# EAGLE library part 609-3706-1-ND-* (library RoboJackets-Connectors)
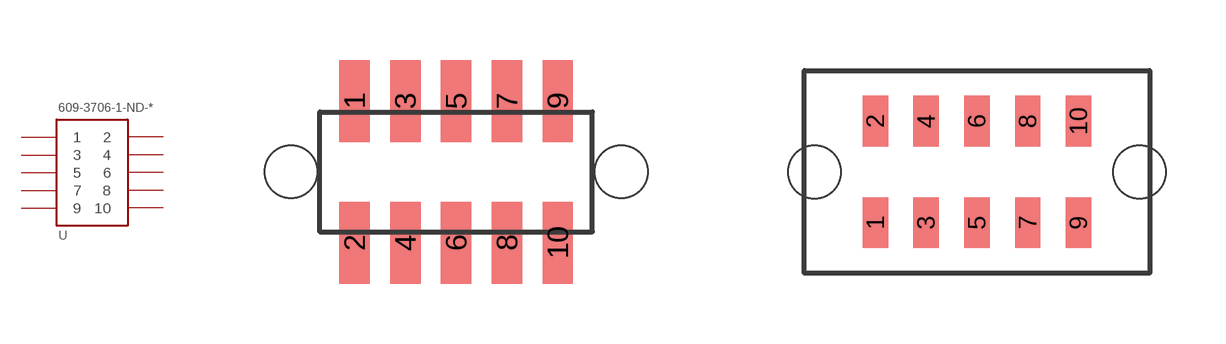
[diagram p10: symbol with the pads of 5X2_FEMALE; footprints 5X2_FEMALE, 5X2_MALE]

Designator prefix -

## 609-3706-1-ND-FEMALE  [5X2_FEMALE]
1  1
2  2
3  3
4  4
5  5
6  6
7  7
8  8
9  9
10  10

## 609-3706-1-ND-MALE  [5X2_MALE]
Pads as for 5X2_FEMALE

## Footprint 5X2_FEMALE (pad centres in mm)
smd 0.76 x 2.05: 1 -2.54,1.775; 2 -2.54,-1.775; 3 -1.27,1.775; 4 -1.27,-1.775; 5 0,1.775; 6 0,-1.775; 7 1.27,1.775; 8 1.27,-1.775; 9 2.54,1.775; 10 2.54,-1.775
hole 1.321 at -4.13,0
hole 1.321 at 4.13,0

## Footprint 5X2_MALE (pad centres in mm)
Amphenol FCI - SMD 10 pin connector
smd 0.635 x 1.27: 1 -2.54,-1.27; 2 -2.54,1.27; 3 -1.27,-1.27; 4 -1.27,1.27; 5 0,-1.27; 6 0,1.27; 7 1.27,-1.27; 8 1.27,1.27; 9 2.54,-1.27; 10 2.54,1.27
hole 1.321 at 4.064,0
hole 1.321 at -4.064,0